# EAGLE library part SC810 (library rallyESP_lib)
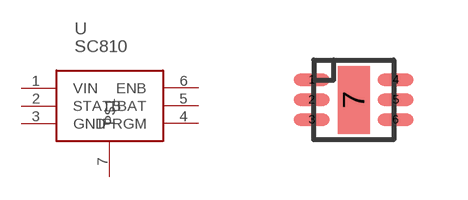
[diagram p1: symbol with the pads of MLPD-UT6; footprint MLPD-UT6]

Designator prefix -

## SC810  [MLPD-UT6]
1  VIN
2  STATB
3  GND
4  IPRGM
5  BAT
6  ENB
7  P$1

## Footprint MLPD-UT6 (pad centres in mm)
smd 0.9 x 0.3: 1 -1.05,0.5; 2 -1.05,0; 3 -1.05,-0.5; 4 1.05,0.5; 5 1.05,0; 6 1.05,-0.5
smd 0.8 x 1.7: 7 0,0